# Altium footprint library Transistores RF.PcbLib: 1 footprints
Each footprint in its own frame and in the unit in brackets; x right, y up, seen from the top. Pads: shape width x height; smd on the part's side, far side on the other; paste and mask are expansions set on the pad; w line width, h text height; cw(c..) or ccw(c..) is an arc to the next point about the centre after c.
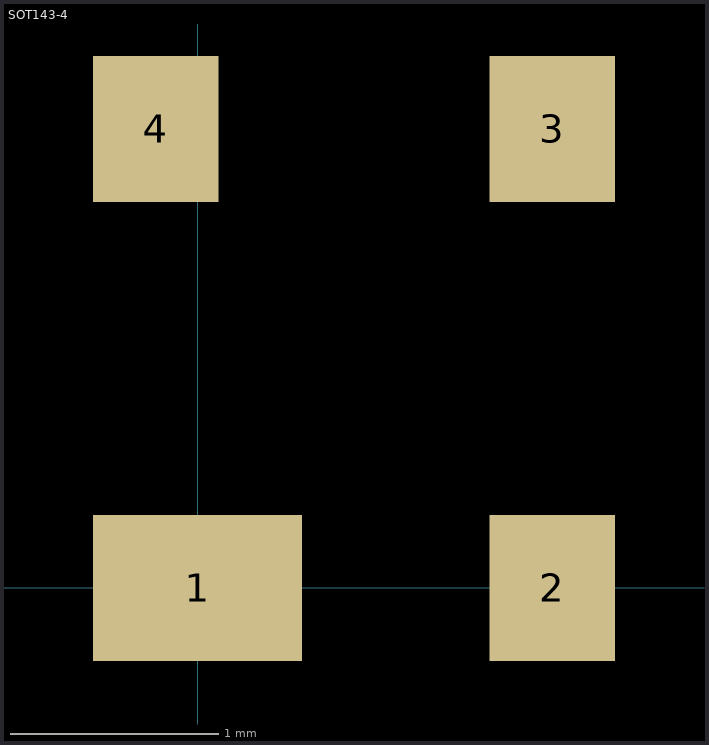
[diagram p0: the footprint, top view; thin cyan lines are the x and y axes]

## SOT143-4 [mm]
pads (4):
  rect 1x0.7 smd: 1(0,0)
  rect 0.6x0.7 smd: 2(1.7,0) 3(1.7,2.2) 4(-0.2,2.2)
3D body "SOT143-4.STEP": height 1, standoff 0, extent -0.698,-0.067 2.222,2.353